# EAGLE library part AD9850 (library ic)
AD9850: DDS synthesizer (Analog Devices) 5V supply, 125MHz clock, 32bit tuning word
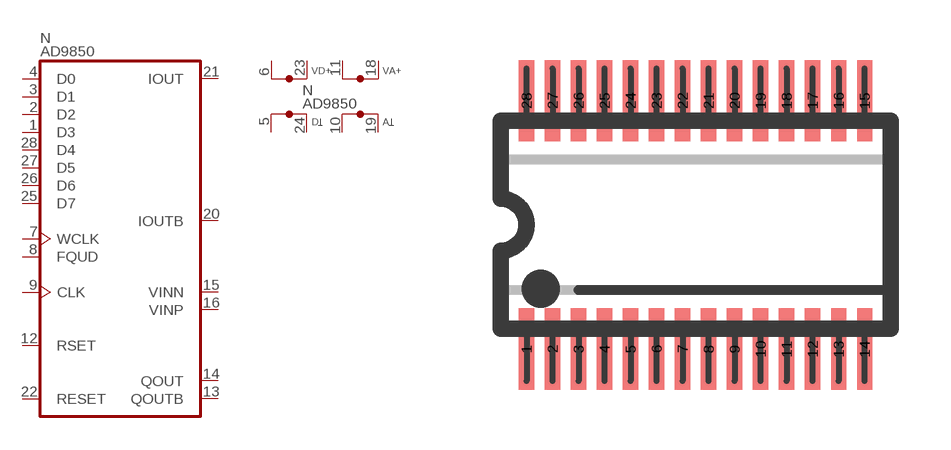
[diagram p61: symbol with the pads of SSOP28; footprint SSOP28]

Designator prefix N; gates  =AD9850 P=VAD9850

## AD9850  [SSOP28]
1   :D3  in
2   :D2  in
3   :D1  in
4   :D0  in
5  P:DGND  pwr
6  P:VD+  pwr
7   :WCLK  in
8   :FQUD  in
9   :CLK  in
10  P:AGND  pwr
11  P:VA+  pwr
12   :RSET  pas
13   :QOUTB  out
14   :QOUT  out
15   :VINN  in
16   :VINP  in
18  P:VA+  pwr
19  P:AGND  pwr
20   :IOUTB  out
21   :IOUT  out
22   :RESET  in
23  P:VD+  pwr
24  P:DGND  pwr
25   :D7  in
26   :D6  in
27   :D5  in
28   :D4  in

## AD9850S  [SSOP28]
Pads as for SSOP28

## Footprint SSOP28 (pad centres in mm)
SSOP-28, SMD SSOP IC package, 28 pins (fine pitch SMD)
smd 0.381 x 2.032: 1 -4.227,-3.104; 2 -3.576,-3.104; 3 -2.926,-3.104; 4 -2.276,-3.104; 5 -1.626,-3.104; 6 -0.975,-3.104; 7 -0.325,-3.104; 8 0.325,-3.104; 9 0.975,-3.104; 10 1.626,-3.104; 11 2.276,-3.104; 12 2.926,-3.104; 13 3.576,-3.104; 14 4.226,-3.104; 15 4.226,3.104; 16 3.576,3.104; 17 2.926,3.104; 18 2.276,3.104; 19 1.626,3.104; 20 0.975,3.104; 21 0.325,3.104; 22 -0.325,3.104; 23 -0.975,3.104; 24 -1.626,3.104; 25 -2.276,3.104; 26 -2.926,3.104; 27 -3.576,3.104; 28 -4.227,3.104